# Altium footprint library HJ-185IMH & HJ-380IMH 不同的PCB天线封装 参考使用.PcbLib: 8 footprints
Each footprint in its own frame and in the unit in brackets; x right, y up, seen from the top. Pads: shape width x height; smd on the part's side, far side on the other; paste and mask are expansions set on the pad; w line width, h text height; cw(c..) or ccw(c..) is an arc to the next point about the centre after c.
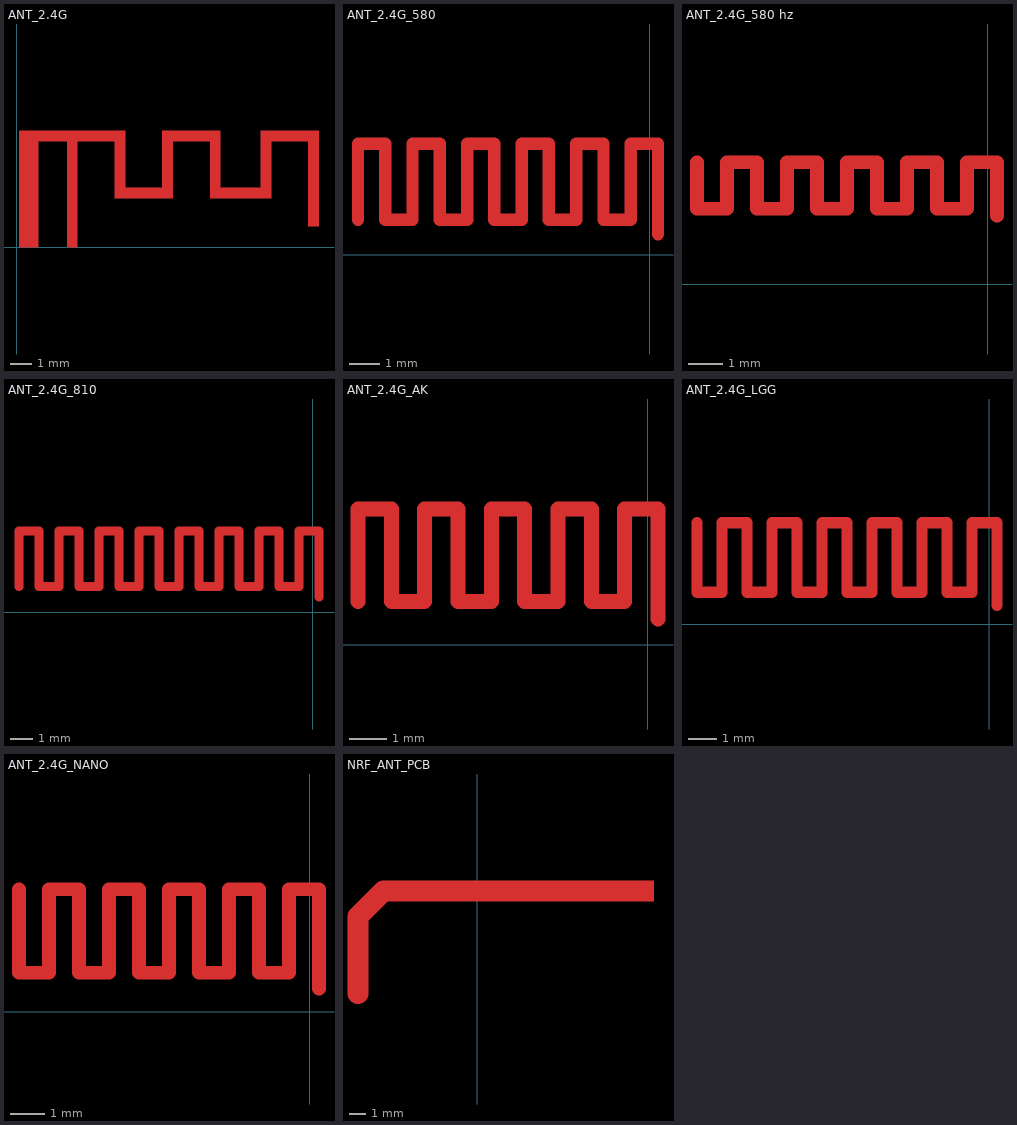
[diagram p0: the footprints below, top view; thin cyan lines are the x and y axes]

## ANT_2.4G [mm]
Top Layer:
  rectangle: 6.7,4.896 9.4,5.396
  rectangle: 13.443,0.956 13.943,5.076
  rectangle: 11.243,4.896 13.943,5.396
  rectangle: 11.243,2.256 11.743,5.076
  rectangle: 9.253,2.256 11.742,2.756
  rectangle: 8.902,2.256 9.402,5.076
  rectangle: 6.7,2.256 7.2,5.076
  rectangle: 4.66,2.256 7.2,2.756
  rectangle: 4.505,2.256 5.005,5.076
  rectangle: 0.095,4.896 5.005,5.396
  rectangle: 0.095,-0.004 0.995,5.101
  rectangle: 2.305,-0.004 2.805,5.127

## ANT_2.4G_580 [mm]
Top Layer:
  lines w0.4: -9.442,1.141 -9.442,3.597 -8.559,3.597 -8.559,1.141 -7.676,1.141 -7.676,3.597 -6.793,3.597 -6.793,1.141 -5.91,1.141 -5.91,3.597 -5.027,3.597 -5.027,1.141 -4.144,1.141 -4.144,3.597 -3.261,3.597 -3.261,1.141 -2.378,1.141 -2.378,3.597 -1.495,3.597 -1.495,1.141 -0.612,1.141 -0.612,3.597 0.271,3.597 0.271,0.676

## ANT_2.4G_580 hz [mm]
Top Layer:
  lines w0.4: -8.559,3.597 -8.559,2.222 -7.676,2.222 -7.676,3.597 -6.793,3.597 -6.793,2.237 ; -6.793,2.222 -5.91,2.222 ; -5.91,2.252 -5.91,3.597 -5.027,3.597 -5.027,2.237 ; -5.027,2.222 -4.144,2.222 ; -4.144,2.23 -4.144,3.597 -3.261,3.597 -3.261,2.241 ; -3.261,2.222 -2.378,2.222 ; -2.378,2.245 -2.378,3.597 -1.495,3.597 -1.495,2.241 ; -1.495,2.222 -0.612,2.222 ; -0.612,2.237 -0.612,3.597 0.271,3.597 0.271,2.02

## ANT_2.4G_810 [mm]
Top Layer:
  lines w0.4: -12.974,1.141 -12.974,3.597 -12.091,3.597 -12.091,1.141 -11.208,1.141 -11.208,3.597 -10.325,3.597 -10.325,1.141 -9.442,1.141 -9.442,3.597 -8.559,3.597 -8.559,1.141 -7.676,1.141 -7.676,3.597 -6.793,3.597 -6.793,1.141 -5.91,1.141 -5.91,3.597 -5.027,3.597 -5.027,1.141 -4.144,1.141 -4.144,3.597 -3.261,3.597 -3.261,1.141 -2.378,1.141 -2.378,3.597 -1.495,3.597 -1.495,1.141 -0.612,1.141 -0.612,3.597 0.271,3.597 0.271,0.676

## ANT_2.4G_AK [mm]
Top Layer:
  lines w0.4: -7.676,1.141 -7.676,3.597 -6.793,3.597 -6.793,1.141 -5.91,1.141 -5.91,3.597 -5.027,3.597 -5.027,1.141 -4.144,1.141 -4.144,3.597 -3.261,3.597 -3.261,1.141 -2.378,1.141 -2.378,3.597 -1.495,3.597 -1.495,1.141 -0.612,1.141 -0.612,3.597 0.271,3.597 0.271,0.676

## ANT_2.4G_LGG [mm]
Top Layer:
  lines w0.4: -10.327,3.598 -10.327,1.142 -9.444,1.142 -9.444,3.598 -8.561,3.598 ; -8.559,3.597 -8.559,1.141 -7.676,1.141 -7.676,3.597 -6.793,3.597 -6.793,1.141 -5.91,1.141 -5.91,3.597 -5.027,3.597 -5.027,1.141 -4.144,1.141 -4.144,3.597 -3.261,3.597 -3.261,1.141 -2.378,1.141 -2.378,3.597 -1.495,3.597 -1.495,1.141 -0.612,1.141 -0.612,3.597 0.271,3.597 0.271,0.676

## ANT_2.4G_NANO [mm]
Top Layer:
  lines w0.4: -8.559,3.597 -8.559,1.141 -7.676,1.141 -7.676,3.597 -6.793,3.597 -6.793,1.141 -5.91,1.141 -5.91,3.597 -5.027,3.597 -5.027,1.141 -4.144,1.141 -4.144,3.597 -3.261,3.597 -3.261,1.141 -2.378,1.141 -2.378,3.597 -1.495,3.597 -1.495,1.141 -0.612,1.141 -0.612,3.597 0.271,3.597 0.271,0.676

## NRF_ANT_PCB [mm]
Top Layer:
  region: 10.781,-9.012 10.781,-7.742 10.019,-7.742 10.019,-9.012
  lines w1.27: -7.267,-14.629 -7.267,-9.94 -5.708,-8.38 10.134,-8.38